# Altium footprint library PcbLib.PcbLib: 48 footprints (part 3 of 3)
Each footprint in its own frame and in the unit in brackets; x right, y up, seen from the top. Pads: shape width x height; smd on the part's side, far side on the other; paste and mask are expansions set on the pad; w line width, h text height; cw(c..) or ccw(c..) is an arc to the next point about the centre after c.
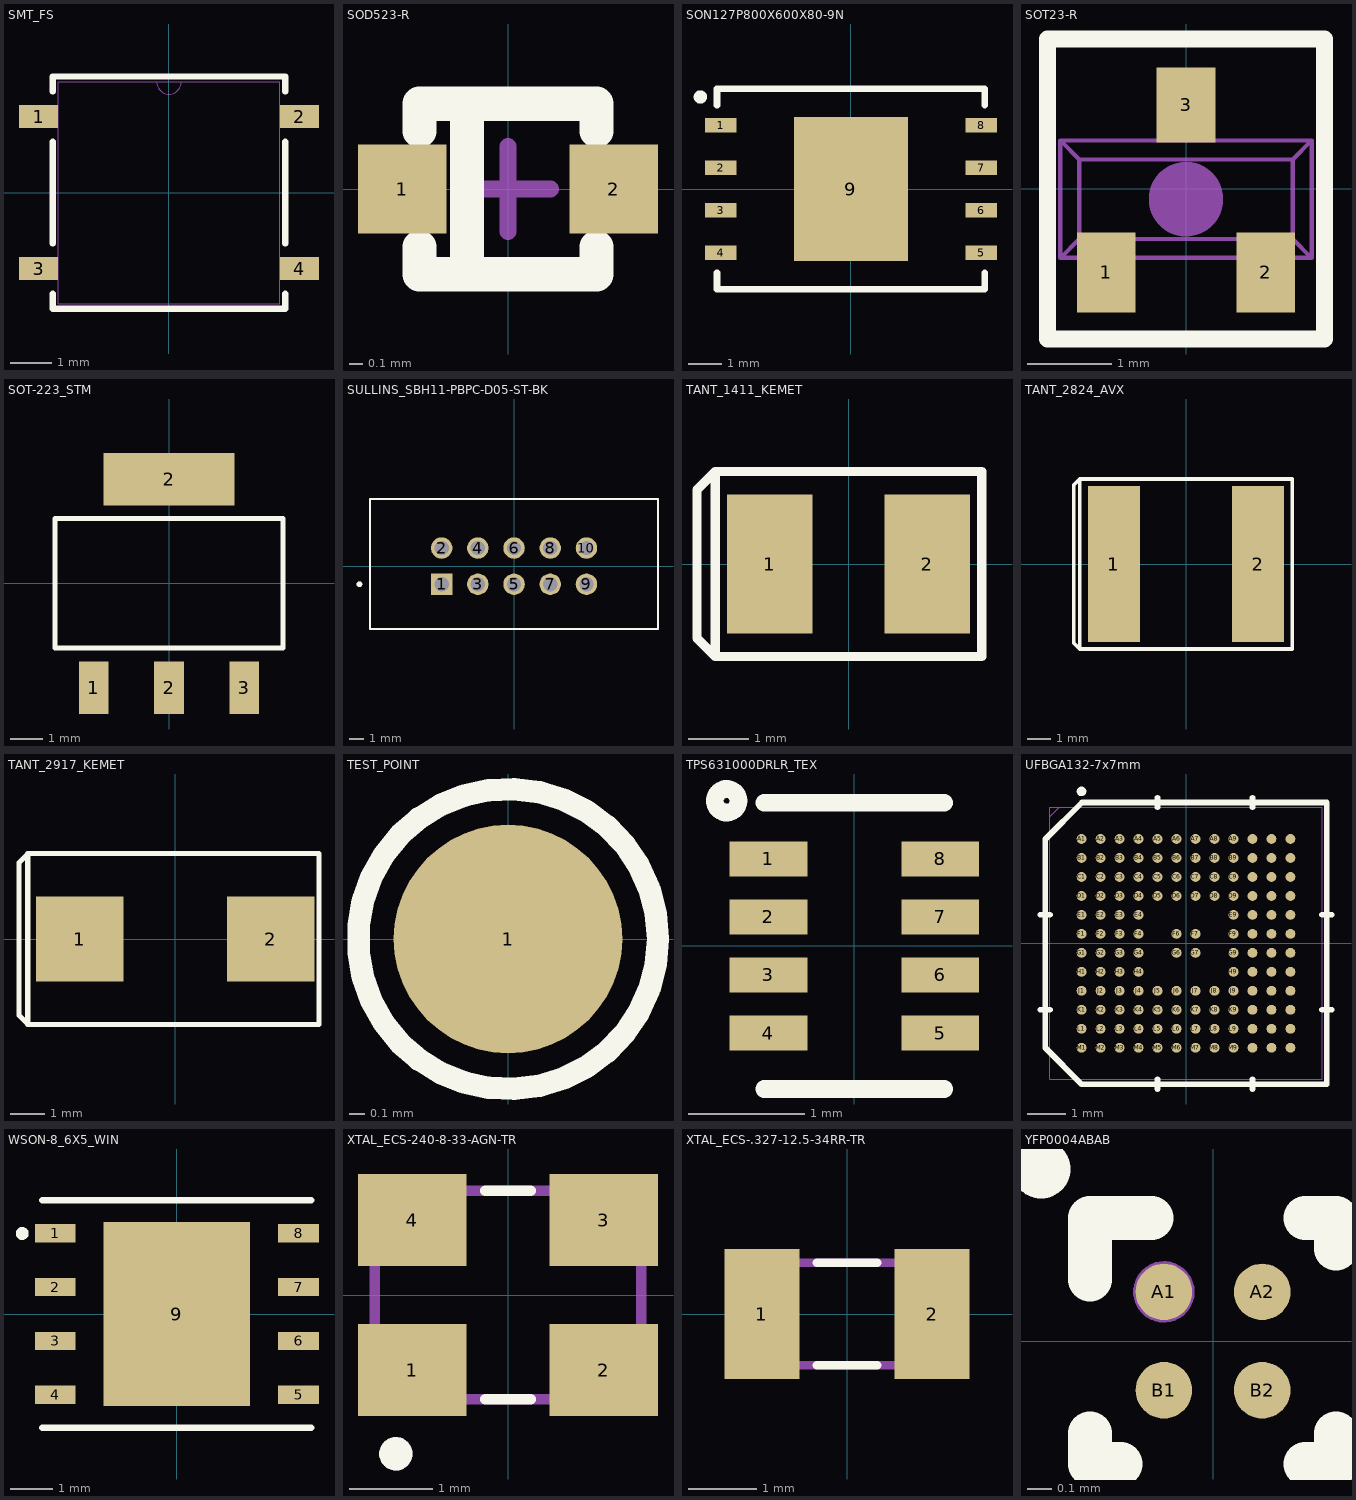
[diagram p2: the footprints below, top view; thin cyan lines are the x and y axes]

## SMT_FS [mil]
pads (4):
  rect 37.5x22 smd paste+0: 1(-125.25,73) 2(125.25,73) 3(-125.25,-73) 4(125.25,-73)
Top Overlay:
  lines w6: -111.5,-97.1 -111.5,-111.5 111.5,-111.5 111.5,-97.1 ; -111.5,-48.9 -111.5,48.9 ; -111.5,97.1 -111.5,111.5 111.5,111.5 111.5,97.1 ; 111.5,-48.9 111.5,48.9
Mechanical 13:
  lines w0: -12,106.5 ccw(c0,106.5) 12,106.5
  lines w1: -130,-83 -106.5,-83 -106.5,-63 -130,-63 -130,-83 ; -130,63 -106.5,63 -106.5,83 -130,83 -130,63 ; -106.5,-106.5 -106.5,106.5 106.5,106.5 106.5,-106.5 -106.5,-106.5 ; 106.5,-83 130,-83 130,-63 106.5,-63 106.5,-83 ; 106.5,63 130,63 130,83 106.5,83 106.5,63
  text "*" at -104,53.5 h50
3D body "PTS525SM15SMTR2LFS--3DModel-STEP-56544.STEP": height 62.99, standoff 0, extent -125.98,-100.39 125.98,100.39

## SOD523-R [mil]
pads (2):
  rect 26x26 smd: 1(-31,0) 2(31,0)
Top Overlay:
  lines w10: -26,-17 -26,-25 26,-25 26,-17 ; -26,17 -26,25 26,25 26,17 ; -12,-23 -12,24
Mechanical 16:
  lines w5: -12.5,0 12.5,0 ; 0,-12.5 0,12.5
3D body "ESD5B5.0ST1G.STEP": height 27.56, standoff 0, extent -31,-17.24 32,14.25

## SON127P800X600X80-9N [mm]
pads (9):
  rect 0.94x0.44 smd: 1(-3.895,1.905) 2(-3.895,0.635) 3(-3.895,-0.635) 4(-3.895,-1.905) 5(3.895,-1.905) 6(3.895,-0.635) 7(3.895,0.635) 8(3.895,1.905)
  rect 3.4x4.3 smd paste-3: 9(0,0)
Top Overlay:
  circle w0.2: c-4.5,2.75 r0.1
  lines w0.2: -4,-2.5 -4,-3 4,-3 4,-2.5 ; -4,2.5 -4,3 4,3 4,2.5
Top Paste:
  region: 1.335,-1.785 0.185,-1.785 0.185,-0.185 1.335,-0.185
  region: 1.335,0.185 0.185,0.185 0.185,1.785 1.335,1.785
  region: -0.185,-1.785 -1.335,-1.785 -1.335,-0.185 -0.185,-0.185
  region: -0.185,0.185 -1.335,0.185 -1.335,1.785 -0.185,1.785
3D body "step_temp.STEP": height 0.8, standoff 0, extent -4,-3 4,3

## SOT23-R [mm]
height 1.1
pads (3):
  rect 0.7x0.95 smd: 1(-0.95,-1) 2(0.95,-1)
  rect 0.7x0.9 smd: 3(0,1)
Top Overlay:
  lines w0.203: -1.651,-1.794 1.651,-1.794 1.651,1.787 -1.651,1.787 -1.651,-1.794
Mechanical 9:
  circle w0.635: c0,-0.125 r0.127
Mechanical 11:
  lines w0.051: -1.2,-0.825 -1.2,-1.375 -0.7,-1.375 -0.7,-0.825 ; -0.25,0.575 -0.25,1.125 0.25,1.125 0.25,0.575 ; 0.7,-0.825 0.7,-1.375 1.2,-1.375 1.2,-0.825 ; -1.5,-0.825 -1.275,-0.6 ; -1.5,-0.825 -1.5,0.575 ; -1.5,-0.825 1.5,-0.825 ; -1.5,0.575 -1.275,0.35 ; -1.5,0.575 1.5,0.575 ; -1.275,-0.6 1.275,-0.6 ; -1.275,-0.6 -1.275,0.35 ; -1.275,0.35 1.275,0.35 ; 1.275,-0.6 1.5,-0.825 ; 1.275,-0.6 1.275,0.35 ; 1.275,0.35 1.5,0.575 ; 1.5,-0.825 1.5,0.575
3D body "SOT23-2.STEP": height 1.07, standoff -0.01, extent -1.476,-1.395 1.524,1.245

## SOT-223_STM [mil]
pads (4):
  rect 36x63 smd paste+0 mask+0: 1(-90.55,-126) 2(0,-126) 3(90.55,-126)
  rect 157.48x62.99 smd paste+0 mask+0: 2(0,125)
Top Overlay:
  lines w6: -137,-78 -137,78 137,78 137,-78 -137,-78
3D body "SOT-223_STM.step": height 71.1, standoff 0, extent -132.01,-143.5 132.01,143.5

## SULLINS_SBH11-PBPC-D05-ST-BK [mm]
height 9.1
pads (10):
  rect 1.508x1.508 hole 1: 1(-5.08,-1.27)
  round 1.508 hole 1: 2(-5.08,1.27) 3(-2.54,-1.27) 4(-2.54,1.27) 5(0,-1.27) 6(0,1.27) 7(2.54,-1.27) 8(2.54,1.27) 9(5.08,-1.27) 10(5.08,1.27)
Top Overlay:
  circle w0.2: c-10.85,-1.27 r0.1
  lines w0.127: -10.1,-4.4 10.1,-4.4 10.1,4.7 -10.1,4.7 -10.1,-4.4
Mechanical 13:
  circle w0.2: c-10.85,-1.27 r0.1
  lines w0.127: -10.1,-4.4 10.1,-4.4 10.1,4.7 -10.1,4.7 -10.1,-4.4
3D body "step_temp.STEP": height 9.09, standoff -3, extent -10.096,-4.394 10.096,4.699

## TANT_1411_KEMET [mm]
pads (2):
  rect 1.405x2.3 smd paste+0 mask+0: 1(-1.3,0) 2(1.3,0)
Top Overlay:
  lines w0.152: -2.2,-1.527 -2.5,-1.227 -2.5,1.227 -2.2,1.527 ; -2.2,-1.527 -1.977,-1.527 1.977,-1.527 2.2,-1.527 2.2,1.527 1.977,1.527 -1.977,1.527 -2.2,1.527 ; -2.2,-1.527 -2.2,1.527
3D body "CAPMP37X28_21N_KEM.step": height 2.15, standoff 0, extent -1.85,-1.4 1.85,1.4

## TANT_2824_AVX [mm]
pads (2):
  rect 2.17x6.51 smd: 1(-3.018,0) 2(3.018,0)
Top Overlay:
  lines w0.152: -4.445,-3.556 4.445,-3.556 4.445,3.556 1.696,3.556 -4.318,3.556 ; -4.445,-3.556 -4.445,3.556 ; -4.445,-3.556 -4.699,-3.302 -4.699,3.302 -4.445,3.556 ; -4.445,3.556 -4.318,3.556 ; -4.445,3.556 -4.318,3.556
3D body "C2824C562JGGACAUTO.step": height 2.7, standoff 0, extent -3.494,-3.041 3.606,3.059

## TANT_2917_KEMET [mm]
pads (2):
  rect 2.56x2.5 smd paste+0 mask+0: 1(-2.794,0) 2(2.794,0)
Top Overlay:
  lines w0.152: -4.572,-2.228 -4.318,-2.482 -4.318,2.482 -4.572,2.228 -4.572,-2.228 ; -4.318,-2.5 4.2,-2.5 4.2,2.5 -4.318,2.5 -4.318,-2.5
3D body "CTSM_TCM2NKKO_7343_L7.6W4.6H3.1T0.13S1.3F2.5A3.8B0.65P0.9R1X0.2.step": height 3.11, standoff 0, extent -3.8,-2.314 3.8,2.286

## TEST_POINT [mil]
pads (1):
  round 60 smd paste-23 mask+1.97: 1(0,0)
Top Overlay:
  circle w5.91: c0,0 r39.37

## TPS631000DRLR_TEX [mm]
pads (8):
  rect 0.67x0.3 smd paste+0 mask+0: 1(-0.74,0.75) 2(-0.74,0.25) 3(-0.74,-0.25) 4(-0.74,-0.75) 5(0.74,-0.75) 6(0.74,-0.25) 7(0.74,0.25) 8(0.74,0.75)
Top Overlay:
  circle w0.152: c-1.1,1.25 r0.102
  lines w0.152: -0.775,-1.232 0.775,-1.232 ; -0.775,1.232 0.775,1.232
3D body "TPS631000DRLR_TEX.step": height 0.69, standoff 0, extent -0.851,-1.105 0.851,1.105

## UFBGA132-7x7mm [mm]
pads (132):
  round 0.26 smd paste+0 mask+0: A1(-2.75,2.75) A2(-2.25,2.75) A3(-1.75,2.75) A4(-1.25,2.75) A5(-0.75,2.75) A6(-0.25,2.75) A7(0.25,2.75) A8(0.75,2.75) A9(1.25,2.75) A10(1.75,2.75) A11(2.25,2.75) A12(2.75,2.75) B1(-2.75,2.25) B2(-2.25,2.25) B3(-1.75,2.25) B4(-1.25,2.25) B5(-0.75,2.25) B6(-0.25,2.25) B7(0.25,2.25) B8(0.75,2.25) B9(1.25,2.25) B10(1.75,2.25) B11(2.25,2.25) B12(2.75,2.25) C1(-2.75,1.75) C2(-2.25,1.75) C3(-1.75,1.75) C4(-1.25,1.75) C5(-0.75,1.75) C6(-0.25,1.75) C7(0.25,1.75) C8(0.75,1.75) C9(1.25,1.75) C10(1.75,1.75) C11(2.25,1.75) C12(2.75,1.75) D1(-2.75,1.25) D2(-2.25,1.25) D3(-1.75,1.25) D4(-1.25,1.25) D5(-0.75,1.25) D6(-0.25,1.25) D7(0.25,1.25) D8(0.75,1.25) D9(1.25,1.25) D10(1.75,1.25) D11(2.25,1.25) D12(2.75,1.25) E1(-2.75,0.75) E2(-2.25,0.75) E3(-1.75,0.75) E4(-1.25,0.75) E9(1.25,0.75) E10(1.75,0.75) E11(2.25,0.75) E12(2.75,0.75) F1(-2.75,0.25) F2(-2.25,0.25) F3(-1.75,0.25) F4(-1.25,0.25) F6(-0.25,0.25) F7(0.25,0.25) F9(1.25,0.25) F10(1.75,0.25) F11(2.25,0.25) F12(2.75,0.25) G1(-2.75,-0.25) G2(-2.25,-0.25) G3(-1.75,-0.25) G4(-1.25,-0.25) G6(-0.25,-0.25) G7(0.25,-0.25) G9(1.25,-0.25) G10(1.75,-0.25) G11(2.25,-0.25) G12(2.75,-0.25) H1(-2.75,-0.75) H2(-2.25,-0.75) H3(-1.75,-0.75) H4(-1.25,-0.75) H9(1.25,-0.75) H10(1.75,-0.75) H11(2.25,-0.75) H12(2.75,-0.75) J1(-2.75,-1.25) J2(-2.25,-1.25) J3(-1.75,-1.25) J4(-1.25,-1.25) J5(-0.75,-1.25) J6(-0.25,-1.25) J7(0.25,-1.25) J8(0.75,-1.25) J9(1.25,-1.25) J10(1.75,-1.25) J11(2.25,-1.25) J12(2.75,-1.25) K1(-2.75,-1.75) K2(-2.25,-1.75) K3(-1.75,-1.75) K4(-1.25,-1.75) K5(-0.75,-1.75) K6(-0.25,-1.75) K7(0.25,-1.75) K8(0.75,-1.75) K9(1.25,-1.75) K10(1.75,-1.75) K11(2.25,-1.75) K12(2.75,-1.75) L1(-2.75,-2.25) L2(-2.25,-2.25) L3(-1.75,-2.25) L4(-1.25,-2.25) L5(-0.75,-2.25) L6(-0.25,-2.25) L7(0.25,-2.25) L8(0.75,-2.25) L9(1.25,-2.25) L10(1.75,-2.25) L11(2.25,-2.25) L12(2.75,-2.25) M1(-2.75,-2.75) M2(-2.25,-2.75) M3(-1.75,-2.75) M4(-1.25,-2.75) M5(-0.75,-2.75) M6(-0.25,-2.75) M7(0.25,-2.75) M8(0.75,-2.75) M9(1.25,-2.75) M10(1.75,-2.75) M11(2.25,-2.75) M12(2.75,-2.75)
Top Overlay:
  circle w0.127: c-2.75,4 r0.064
  lines w0.152: -3.835,-1.75 -3.581,-1.75 ; -3.835,0.75 -3.581,0.75 ; -0.75,-3.835 -0.75,-3.581 ; -0.75,3.581 -0.75,3.835 ; 1.75,-3.835 1.75,-3.581 ; 1.75,3.581 1.75,3.835 ; 3.581,-1.75 3.835,-1.75 ; 3.581,0.75 3.835,0.75 ; -3.708,-2.75 -2.75,-3.708 3.708,-3.708 3.708,3.708 -2.742,3.708 -3.708,2.742 -3.708,-2.75
Mechanical 13:
  lines w0.025: -3.581,3.331 -3.331,3.581 ; -3.581,-3.581 3.581,-3.581 3.581,3.581 -3.581,3.581 -3.581,-3.581
3D body "UFBGA132-7x7mm.step": height 0.61, standoff 0, extent -3.581,-3.581 3.581,3.581

## WSON-8_6X5_WIN [mil]
pads (9):
  rect 38x17 smd paste+0 mask+0: 1(-113,75) 2(-113,25) 3(-113,-25) 4(-113,-75) 5(113,-75) 6(113,-25) 7(113,25) 8(113,75)
  rect 136x171 smd paste+0 mask+0: 9(0,0)
Top Overlay:
  circle w6: c-143.7,74.8 r3
  lines w6: -125,-105.5 125,-105.5 ; -125,105.5 125,105.5
Top Paste:
  region: 64.06,-32.44 3.94,-32.44 3.94,-81.56 64.06,-81.56
  region: 64.06,24.56 3.94,24.56 3.94,-24.56 64.06,-24.56
  region: 64.06,81.56 3.94,81.56 3.94,32.44 64.06,32.44
  region: -3.94,-32.44 -64.06,-32.44 -64.06,-81.56 -3.94,-81.56
  region: -3.94,24.56 -64.06,24.56 -64.06,-24.56 -3.94,-24.56
  region: -3.94,81.56 -64.06,81.56 -64.06,32.44 -3.94,32.44
3D body "WSON-8_6X5_WIN.step": height 32.09, standoff 0, extent -120,-100.51 120,100.51

## XTAL_ECS-240-8-33-AGN-TR [mm]
pads (4):
  rect 1.3x1.1 smd: 1(-1.15,-0.9) 2(1.15,-0.9) 3(1.15,0.9) 4(-1.15,0.9)
Top Overlay:
  circle w0.2: c-1.346,-1.905 r0.1
  lines w0.127: -0.27,-1.25 0.27,-1.25 ; -0.27,1.25 0.27,1.25
Mechanical 13:
  circle w0.2: c-1.346,-1.905 r0.1
  lines w0.127: -1.6,-1.25 1.6,-1.25 1.6,1.25 -1.6,1.25 -1.6,-1.25
3D body "ECS-80-12-33-JGN-TR.STEP": height 0.8, standoff 0, extent -1.6,-1.25 1.6,1.25

## XTAL_ECS-.327-12.5-34RR-TR [mm]
pads (2):
  rect 1.1x1.9 smd: 1(-1.25,0) 2(1.25,0)
Top Overlay:
  lines w0.127: -0.44,-0.75 0.44,-0.75 ; -0.44,0.75 0.44,0.75
Mechanical 13:
  lines w0.127: -1.6,-0.75 -1.6,0.75 1.6,0.75 1.6,-0.75 -1.6,-0.75
3D body "ECX-.327-CDX-1293--3DModel-STEP-56544.STEP": height 0.9, standoff 0, extent -1.6,-0.75 1.6,0.75

## YFP0004ABAB [mm]
pads (4):
  round 0.23 smd paste-0.102 mask+0.038: A1(-0.2,0.2) A2(0.2,0.2) B1(-0.2,-0.2) B2(0.2,-0.2)
Top Overlay:
  circle w0.2: c-0.7,0.7 r0.02
  lines w0.178: -0.5,-0.5 -0.5,-0.375 ; -0.5,0.25 -0.5,0.475 -0.5,0.5 -0.25,0.5 ; -0.475,-0.5 -0.375,-0.5 ; 0.375,-0.5 0.5,-0.5 ; 0.375,0.5 0.475,0.5 ; 0.5,-0.475 0.5,-0.375 ; 0.5,0.375 0.5,0.5
Top Paste:
  circle w0.05: c-0.125,0.125 r0.025
  circle w0.05: c-0.125,0.275 r0.025
  circle w0.05: c0.125,0.125 r0.025
  circle w0.05: c0.125,0.275 r0.025
  circle w0.05: c-0.275,0.275 r0.025
  circle w0.05: c-0.275,0.125 r0.025
  circle w0.05: c0.125,-0.125 r0.025
  circle w0.05: c-0.275,-0.125 r0.025
  circle w0.05: c-0.125,-0.125 r0.025
  circle w0.05: c0.275,0.275 r0.025
  circle w0.05: c0.275,0.125 r0.025
  circle w0.05: c0.275,-0.125 r0.025
  circle w0.05: c0.125,-0.275 r0.025
  circle w0.05: c0.275,-0.275 r0.025
  circle w0.05: c-0.125,-0.275 r0.025
  circle w0.05: c-0.275,-0.275 r0.025
  region: 0.125,-0.275 0.125,-0.325 0.275,-0.325 0.275,-0.275
  region: 0.125,-0.125 0.075,-0.125 0.075,-0.275 0.125,-0.275
  region: 0.275,-0.125 0.275,-0.075 0.125,-0.075 0.125,-0.125
  region: 0.275,-0.275 0.325,-0.275 0.325,-0.125 0.275,-0.125
  region: 0.275,-0.125 0.125,-0.125 0.125,-0.275 0.275,-0.275
  region: -0.125,-0.125 -0.275,-0.125 -0.275,-0.275 -0.125,-0.275
  region: -0.125,-0.275 -0.075,-0.275 -0.075,-0.125 -0.125,-0.125
  region: -0.125,-0.125 -0.125,-0.075 -0.275,-0.075 -0.275,-0.125
  region: -0.275,-0.125 -0.325,-0.125 -0.325,-0.275 -0.275,-0.275
  region: -0.275,-0.275 -0.275,-0.325 -0.125,-0.325 -0.125,-0.275
  region: 0.125,0.125 0.125,0.075 0.275,0.075 0.275,0.125
  region: 0.125,0.275 0.075,0.275 0.075,0.125 0.125,0.125
  region: 0.275,0.275 0.275,0.325 0.125,0.325 0.125,0.275
  region: 0.275,0.125 0.325,0.125 0.325,0.275 0.275,0.275
  region: 0.275,0.275 0.125,0.275 0.125,0.125 0.275,0.125
  region: -0.125,0.275 -0.275,0.275 -0.275,0.125 -0.125,0.125
  region: -0.125,0.125 -0.075,0.125 -0.075,0.275 -0.125,0.275
  region: -0.125,0.275 -0.125,0.325 -0.275,0.325 -0.275,0.275
  region: -0.275,0.275 -0.325,0.275 -0.325,0.125 -0.275,0.125
  region: -0.275,0.125 -0.275,0.075 -0.125,0.075 -0.125,0.125
Mechanical 13:
  circle w0.05: c-0.2,0.2 r0.1
3D body "TPS22916CNYFPT.STEP": height 0.5, standoff 0, extent -0.39,-0.39 0.39,0.39